# EAGLE library part NHD-5.0-800480TF-ATXI#-CTP-TOUCH (library keves)
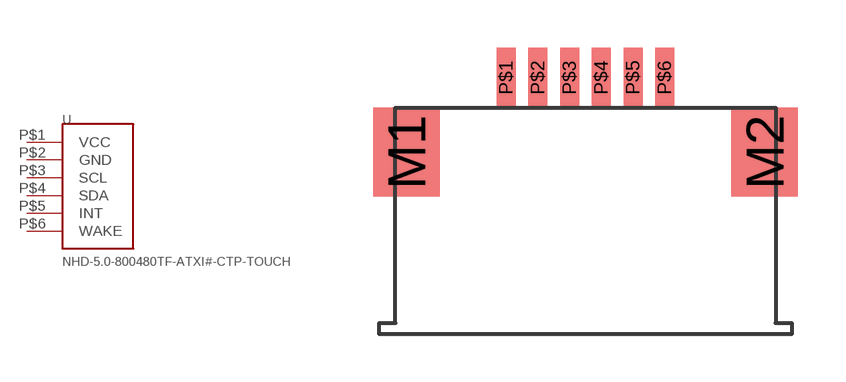
[diagram p12: symbol with the pads of MOLEX-52271-0679; footprint MOLEX-52271-0679]

Designator prefix -

## NHD-5.0-800480TF-ATXI#-CTP-TOUCH  [MOLEX-52271-0679]
P$1  VCC
P$2  GND
P$3  SCL
P$4  SDA
P$5  INT
P$6  WAKE

## Footprint MOLEX-52271-0679 (pad centres in mm)
smd 2.1 x 2.8: M1 -5.65,1.4; M2 5.65,1.4
smd 0.6 x 1.9: P$1 -2.5,3.75; P$2 -1.5,3.75; P$3 -0.5,3.75; P$4 0.5,3.75; P$5 1.5,3.75; P$6 2.5,3.75